# Altium footprint library N25Q128A13BF840F.PcbLib: 3 footprints
Each footprint in its own frame and in the unit in brackets; x right, y up, seen from the top. Pads: shape width x height; smd on the part's side, far side on the other; paste and mask are expansions set on the pad; w line width, h text height; cw(c..) or ccw(c..) is an arc to the next point about the centre after c.
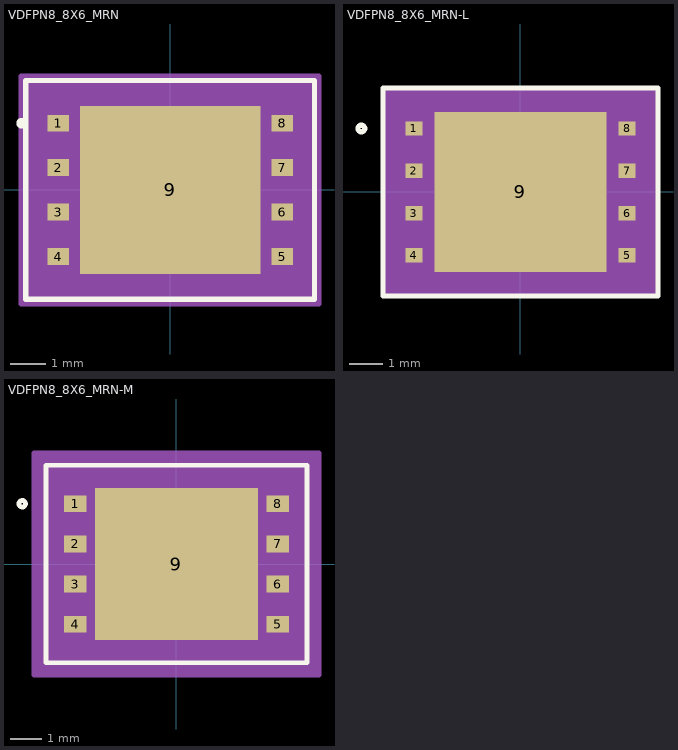
[diagram p0: the footprints below, top view; thin cyan lines are the x and y axes]

## VDFPN8_8X6_MRN [mil]
pads (9):
  rect 24x19 smd paste+0 mask+0: 1(-126,75) 2(-126,25) 3(-126,-25) 4(-126,-75) 5(126,-75) 6(126,-25) 7(126,25) 8(126,75)
  rect 203x189 smd paste+0 mask+0: 9(0,0)
Top Overlay:
  circle w6: c-167,75 r3
  lines w6: -162.5,-123 -162.5,123 162.5,123 162.5,-123 -162.5,-123
Top Paste:
  region: 97.56,-35.44 54.69,-35.44 54.69,-90.56 97.56,-90.56
  region: 97.56,27.56 54.69,27.56 54.69,-27.56 97.56,-27.56
  region: 97.56,90.56 54.69,90.56 54.69,35.44 97.56,35.44
  region: 46.81,-35.44 3.94,-35.44 3.94,-90.56 46.81,-90.56
  region: 46.81,27.56 3.94,27.56 3.94,-27.56 46.81,-27.56
  region: 46.81,90.56 3.94,90.56 3.94,35.44 46.81,35.44
  region: -3.94,-35.44 -46.81,-35.44 -46.81,-90.56 -3.94,-90.56
  region: -3.94,27.56 -46.81,27.56 -46.81,-27.56 -3.94,-27.56
  region: -3.94,90.56 -46.81,90.56 -46.81,35.44 -3.94,35.44
  region: -54.69,-35.44 -97.56,-35.44 -97.56,-90.56 -54.69,-90.56
  region: -54.69,27.56 -97.56,27.56 -97.56,-27.56 -54.69,-27.56
  region: -54.69,90.56 -97.56,90.56 -97.56,35.44 -54.69,35.44
Mechanical 13:
  lines w0: -12,118 ccw(c0,118) 12,118
  lines w1: -157.5,-118 -157.5,118 157.5,118 157.5,-118 -157.5,-118
Mechanical 15:
  region: -167.5,-94.5 -167.5,94.5 -167.5,128 167.5,128 167.5,94.5 167.5,-94.5 167.5,-128 -167.5,-128
  lines w6: -167.5,-128 167.5,-128 167.5,-94.5 167.5,94.5 167.5,128 -167.5,128 -167.5,94.5 -167.5,-94.5 -167.5,-128
3D body "VDFPN8_8X6_MRN.step": height 39.09, standoff 0, extent -157.48,-117.99 157.48,117.99

## VDFPN8_8X6_MRN-L [mil]
pads (9):
  rect 20x17 smd paste+0 mask+0: 1(-126,75) 2(-126,25) 3(-126,-25) 4(-126,-75) 5(126,-75) 6(126,-25) 7(126,25) 8(126,75)
  rect 203x189 smd paste+0 mask+0: 9(0,0)
Top Overlay:
  circle w6: c-188,75 r4
  lines w6: -162.5,-123 162.5,-123 162.5,123 -162.5,123 -162.5,-123
Top Paste:
  region: -54.69,90.56 -97.56,90.56 -97.56,35.44 -54.69,35.44
  region: -54.69,27.56 -97.56,27.56 -97.56,-27.56 -54.69,-27.56
  region: -54.69,-35.44 -97.56,-35.44 -97.56,-90.56 -54.69,-90.56
  region: -3.94,90.56 -46.81,90.56 -46.81,35.44 -3.94,35.44
  region: -3.94,27.56 -46.81,27.56 -46.81,-27.56 -3.94,-27.56
  region: -3.94,-35.44 -46.81,-35.44 -46.81,-90.56 -3.94,-90.56
  region: 46.81,90.56 3.94,90.56 3.94,35.44 46.81,35.44
  region: 46.81,27.56 3.94,27.56 3.94,-27.56 46.81,-27.56
  region: 46.81,-35.44 3.94,-35.44 3.94,-90.56 46.81,-90.56
  region: 97.56,90.56 54.69,90.56 54.69,35.44 97.56,35.44
  region: 97.56,27.56 54.69,27.56 54.69,-27.56 97.56,-27.56
  region: 97.56,-35.44 54.69,-35.44 54.69,-90.56 97.56,-90.56
Mechanical 13:
  circle w0: c-116,75 r3
  lines w0: -12,118 ccw(c0,118) 12,118
  lines w1: -157.5,-118 157.5,-118 157.5,118 -157.5,118 -157.5,-118
Mechanical 15:
  region: -161.5,-87.5 -161.5,87.5 -161.5,122 161.5,122 161.5,87.5 161.5,-87.5 161.5,-122 -161.5,-122
  lines w6: -161.5,-87.5 -161.5,87.5 ; -161.5,-87.5 -161.5,-87.5 ; -161.5,-87.5 -161.5,-122 161.5,-122 161.5,-87.5 ; -161.5,87.5 -161.5,87.5 ; -161.5,87.5 -161.5,122 161.5,122 161.5,87.5 ; 161.5,-87.5 161.5,87.5 ; 161.5,-87.5 161.5,-87.5 ; 161.5,87.5 161.5,87.5
3D body "VDFPN8_8X6_MRN.step": height 39.09, standoff 0, extent -157.48,-117.99 157.48,117.99

## VDFPN8_8X6_MRN-M [mil]
pads (9):
  rect 28x21 smd paste+0 mask+0: 1(-126,75) 2(-126,25) 3(-126,-25) 4(-126,-75) 5(126,-75) 6(126,-25) 7(126,25) 8(126,75)
  rect 203x189 smd paste+0 mask+0: 9(0,0)
Top Overlay:
  circle w6: c-192,75 r4
  lines w6: -162.5,-123 162.5,-123 162.5,123 -162.5,123 -162.5,-123
Top Paste:
  region: -54.69,90.56 -97.56,90.56 -97.56,35.44 -54.69,35.44
  region: -54.69,27.56 -97.56,27.56 -97.56,-27.56 -54.69,-27.56
  region: -54.69,-35.44 -97.56,-35.44 -97.56,-90.56 -54.69,-90.56
  region: -3.94,90.56 -46.81,90.56 -46.81,35.44 -3.94,35.44
  region: -3.94,27.56 -46.81,27.56 -46.81,-27.56 -3.94,-27.56
  region: -3.94,-35.44 -46.81,-35.44 -46.81,-90.56 -3.94,-90.56
  region: 46.81,90.56 3.94,90.56 3.94,35.44 46.81,35.44
  region: 46.81,27.56 3.94,27.56 3.94,-27.56 46.81,-27.56
  region: 46.81,-35.44 3.94,-35.44 3.94,-90.56 46.81,-90.56
  region: 97.56,90.56 54.69,90.56 54.69,35.44 97.56,35.44
  region: 97.56,27.56 54.69,27.56 54.69,-27.56 97.56,-27.56
  region: 97.56,-35.44 54.69,-35.44 54.69,-90.56 97.56,-90.56
Mechanical 13:
  circle w0: c-112,75 r3
  lines w0: -12,118 ccw(c0,118) 12,118
  lines w1: -157.5,-118 157.5,-118 157.5,118 -157.5,118 -157.5,-118
Mechanical 15:
  region: -177.5,-105.5 -177.5,105.5 -177.5,138 177.5,138 177.5,105.5 177.5,-105.5 177.5,-138 -177.5,-138
  lines w6: -177.5,-105.5 -177.5,105.5 ; -177.5,-105.5 -177.5,-105.5 ; -177.5,-105.5 -177.5,-138 177.5,-138 177.5,-105.5 ; -177.5,105.5 -177.5,105.5 ; -177.5,105.5 -177.5,138 177.5,138 177.5,105.5 ; 177.5,-105.5 177.5,105.5 ; 177.5,-105.5 177.5,-105.5 ; 177.5,105.5 177.5,105.5
3D body "VDFPN8_8X6_MRN.step": height 39.09, standoff 0, extent -157.48,-117.99 157.48,117.99